# EAGLE library part SDCARD (library zxuno_rev_mcleod)
SD card connector KINGFONT SDCMF-10915W010
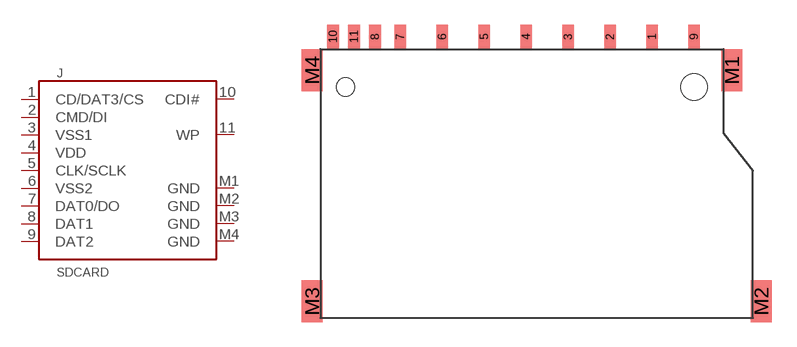
[diagram p9: symbol with the pads of SDCMF-10915W010; footprint SDCMF-10915W010]

Designator prefix J

## SDCARD  [SDCMF-10915W010]
1  CD/DAT3/CS
2  CMD/DI
3  VSS1  pwr
4  VDD  pwr
5  CLK/SCLK
6  VSS2  pwr
7  DAT0/DO
8  DAT1
9  DAT2
10  CDI#  out
11  WP  out
M1  GND  pwr
M2  GND  pwr
M3  GND  pwr
M4  GND  pwr

## Footprint SDCMF-10915W010 (pad centres in mm)
smd 0.711 x 1.422: 1 7.366,13.462; 2 4.826,13.462; 3 2.286,13.462; 4 -0.254,13.462; 5 -2.794,13.462; 6 -5.334,13.462; 7 -7.874,13.462; 8 -9.398,13.462; 9 9.906,13.462; 10 -11.938,13.462; 11 -10.668,13.462
smd 1.27 x 2.54: M1 12.192,11.43; M2 13.97,-2.54; M3 -13.208,-2.54; M4 -13.208,11.43
hole 1.6 at 9.906,10.414
hole 1.1 at -11.176,10.414